# EAGLE library part XC3S500EPQ208 (library xilinx_spartan3_virtex4_and_5)
Xilinx FPGA
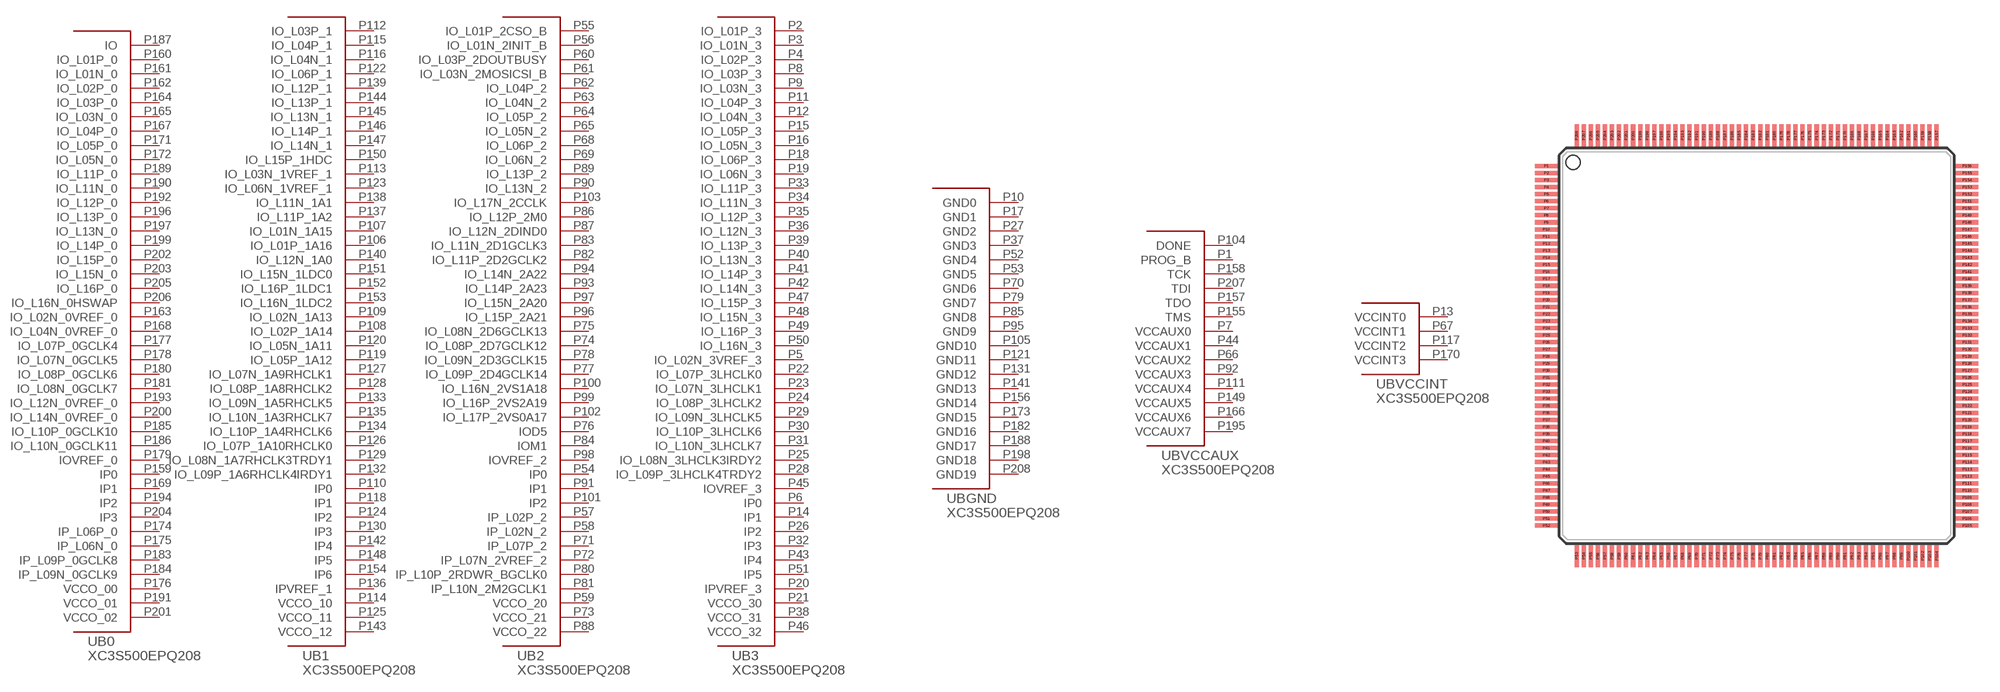
[diagram p51: symbol with the pads of PQ208; footprint PQ208]

Designator prefix U; gates B0=XC3S500EPQ208_0 B1=XC3S500EPQ208_1 B2=XC3S500EPQ208_2 B3=XC3S500EPQ208_3 BGND=XC3S500EPQ208_GND BVCCAUX=XC3S500EPQ208_VCCAUX BVCCINT=XC3S500EPQ208_VCCINT

## XC3S500EPQ208  [PQ208]
P1  BVCCAUX:PROG_B
P2  B3:IO_L01P_3
P3  B3:IO_L01N_3
P4  B3:IO_L02P_3
P5  B3:IO_L02N_3VREF_3
P6  B3:IP0
P7  BVCCAUX:VCCAUX0  pas
P8  B3:IO_L03P_3
P9  B3:IO_L03N_3
P10  BGND:GND0  pas
P11  B3:IO_L04P_3
P12  B3:IO_L04N_3
P13  BVCCINT:VCCINT0  pas
P14  B3:IP1
P15  B3:IO_L05P_3
P16  B3:IO_L05N_3
P17  BGND:GND1  pas
P18  B3:IO_L06P_3
P19  B3:IO_L06N_3
P20  B3:IPVREF_3
P21  B3:VCCO_30  pas
P22  B3:IO_L07P_3LHCLK0
P23  B3:IO_L07N_3LHCLK1
P24  B3:IO_L08P_3LHCLK2
P25  B3:IO_L08N_3LHCLK3IRDY2
P26  B3:IP2
P27  BGND:GND2  pas
P28  B3:IO_L09P_3LHCLK4TRDY2
P29  B3:IO_L09N_3LHCLK5
P30  B3:IO_L10P_3LHCLK6
P31  B3:IO_L10N_3LHCLK7
P32  B3:IP3
P33  B3:IO_L11P_3
P34  B3:IO_L11N_3
P35  B3:IO_L12P_3
P36  B3:IO_L12N_3
P37  BGND:GND3  pas
P38  B3:VCCO_31  pas
P39  B3:IO_L13P_3
P40  B3:IO_L13N_3
P41  B3:IO_L14P_3
P42  B3:IO_L14N_3
P43  B3:IP4
P44  BVCCAUX:VCCAUX1  pas
P45  B3:IOVREF_3
P46  B3:VCCO_32  pas
P47  B3:IO_L15P_3
P48  B3:IO_L15N_3
P49  B3:IO_L16P_3
P50  B3:IO_L16N_3
P51  B3:IP5
P52  BGND:GND4  pas
P53  BGND:GND5  pas
P54  B2:IP0
P55  B2:IO_L01P_2CSO_B
P56  B2:IO_L01N_2INIT_B
P57  B2:IP_L02P_2
P58  B2:IP_L02N_2
P59  B2:VCCO_20  pas
P60  B2:IO_L03P_2DOUTBUSY
P61  B2:IO_L03N_2MOSICSI_B
P62  B2:IO_L04P_2
P63  B2:IO_L04N_2
P64  B2:IO_L05P_2
P65  B2:IO_L05N_2
P66  BVCCAUX:VCCAUX2  pas
P67  BVCCINT:VCCINT1  pas
P68  B2:IO_L06P_2
P69  B2:IO_L06N_2
P70  BGND:GND6  pas
P71  B2:IP_L07P_2
P72  B2:IP_L07N_2VREF_2
P73  B2:VCCO_21  pas
P74  B2:IO_L08P_2D7GCLK12
P75  B2:IO_L08N_2D6GCLK13
P76  B2:IOD5
P77  B2:IO_L09P_2D4GCLK14
P78  B2:IO_L09N_2D3GCLK15
P79  BGND:GND7  pas
P80  B2:IP_L10P_2RDWR_BGCLK0
P81  B2:IP_L10N_2M2GCLK1
P82  B2:IO_L11P_2D2GCLK2
P83  B2:IO_L11N_2D1GCLK3
P84  B2:IOM1
P85  BGND:GND8  pas
P86  B2:IO_L12P_2M0
P87  B2:IO_L12N_2DIND0
P88  B2:VCCO_22  pas
P89  B2:IO_L13P_2
P90  B2:IO_L13N_2
P91  B2:IP1
P92  BVCCAUX:VCCAUX3  pas
P93  B2:IO_L14P_2A23
P94  B2:IO_L14N_2A22
P95  BGND:GND9  pas
P96  B2:IO_L15P_2A21
P97  B2:IO_L15N_2A20
P98  B2:IOVREF_2
P99  B2:IO_L16P_2VS2A19
P100  B2:IO_L16N_2VS1A18
P101  B2:IP2
P102  B2:IO_L17P_2VS0A17
P103  B2:IO_L17N_2CCLK
P104  BVCCAUX:DONE
P105  BGND:GND10  pas
P106  B1:IO_L01P_1A16
P107  B1:IO_L01N_1A15
P108  B1:IO_L02P_1A14
P109  B1:IO_L02N_1A13
P110  B1:IP0
P111  BVCCAUX:VCCAUX4  pas
P112  B1:IO_L03P_1
P113  B1:IO_L03N_1VREF_1
P114  B1:VCCO_10  pas
P115  B1:IO_L04P_1
P116  B1:IO_L04N_1
P117  BVCCINT:VCCINT2  pas
P118  B1:IP1
P119  B1:IO_L05P_1A12
P120  B1:IO_L05N_1A11
P121  BGND:GND11  pas
P122  B1:IO_L06P_1
P123  B1:IO_L06N_1VREF_1
P124  B1:IP2
P125  B1:VCCO_11  pas
P126  B1:IO_L07P_1A10RHCLK0
P127  B1:IO_L07N_1A9RHCLK1
P128  B1:IO_L08P_1A8RHCLK2
P129  B1:IO_L08N_1A7RHCLK3TRDY1
P130  B1:IP3
P131  BGND:GND12  pas
P132  B1:IO_L09P_1A6RHCLK4IRDY1
P133  B1:IO_L09N_1A5RHCLK5
P134  B1:IO_L10P_1A4RHCLK6
P135  B1:IO_L10N_1A3RHCLK7
P136  B1:IPVREF_1
P137  B1:IO_L11P_1A2
P138  B1:IO_L11N_1A1
P139  B1:IO_L12P_1
P140  B1:IO_L12N_1A0
P141  BGND:GND13  pas
P142  B1:IP4
P143  B1:VCCO_12  pas
P144  B1:IO_L13P_1
P145  B1:IO_L13N_1
P146  B1:IO_L14P_1
P147  B1:IO_L14N_1
P148  B1:IP5
P149  BVCCAUX:VCCAUX5  pas
P150  B1:IO_L15P_1HDC
P151  B1:IO_L15N_1LDC0
P152  B1:IO_L16P_1LDC1
P153  B1:IO_L16N_1LDC2
P154  B1:IP6
P155  BVCCAUX:TMS
P156  BGND:GND14  pas
P157  BVCCAUX:TDO
P158  BVCCAUX:TCK
P159  B0:IP0
P160  B0:IO_L01P_0
P161  B0:IO_L01N_0
P162  B0:IO_L02P_0
P163  B0:IO_L02N_0VREF_0
P164  B0:IO_L03P_0
P165  B0:IO_L03N_0
P166  BVCCAUX:VCCAUX6  pas
P167  B0:IO_L04P_0
P168  B0:IO_L04N_0VREF_0
P169  B0:IP1
P170  BVCCINT:VCCINT3  pas
P171  B0:IO_L05P_0
P172  B0:IO_L05N_0
P173  BGND:GND15  pas
P174  B0:IP_L06P_0
P175  B0:IP_L06N_0
P176  B0:VCCO_00  pas
P177  B0:IO_L07P_0GCLK4
P178  B0:IO_L07N_0GCLK5
P179  B0:IOVREF_0
P180  B0:IO_L08P_0GCLK6
P181  B0:IO_L08N_0GCLK7
P182  BGND:GND16  pas
P183  B0:IP_L09P_0GCLK8
P184  B0:IP_L09N_0GCLK9
P185  B0:IO_L10P_0GCLK10
P186  B0:IO_L10N_0GCLK11
P187  B0:IO
P188  BGND:GND17  pas
P189  B0:IO_L11P_0
P190  B0:IO_L11N_0
P191  B0:VCCO_01  pas
P192  B0:IO_L12P_0
P193  B0:IO_L12N_0VREF_0
P194  B0:IP2
P195  BVCCAUX:VCCAUX7  pas
P196  B0:IO_L13P_0
P197  B0:IO_L13N_0
P198  BGND:GND18  pas
P199  B0:IO_L14P_0
P200  B0:IO_L14N_0VREF_0
P201  B0:VCCO_02  pas
P202  B0:IO_L15P_0
P203  B0:IO_L15N_0
P204  B0:IP3
P205  B0:IO_L16P_0
P206  B0:IO_L16N_0HSWAP
P207  BVCCAUX:TDI
P208  BGND:GND19  pas

## Footprint PQ208 (pad centres in mm)
smd 1.6 x 0.3: P1 -14.9,12.75; P2 -14.9,12.25; P3 -14.9,11.75; P4 -14.9,11.25; P5 -14.9,10.75; P6 -14.9,10.25; P7 -14.9,9.75; P8 -14.9,9.25; P9 -14.9,8.75; P10 -14.9,8.25; P11 -14.9,7.75; P12 -14.9,7.25; P13 -14.9,6.75; P14 -14.9,6.25; P15 -14.9,5.75; P16 -14.9,5.25; P17 -14.9,4.75; P18 -14.9,4.25; P19 -14.9,3.75; P20 -14.9,3.25; P21 -14.9,2.75; P22 -14.9,2.25; P23 -14.9,1.75; P24 -14.9,1.25; P25 -14.9,0.75; P26 -14.9,0.25; P27 -14.9,-0.25; P28 -14.9,-0.75; P29 -14.9,-1.25; P30 -14.9,-1.75; P31 -14.9,-2.25; P32 -14.9,-2.75; P33 -14.9,-3.25; P34 -14.9,-3.75; P35 -14.9,-4.25; P36 -14.9,-4.75; P37 -14.9,-5.25; P38 -14.9,-5.75; P39 -14.9,-6.25; P40 -14.9,-6.75; P41 -14.9,-7.25; P42 -14.9,-7.75; P43 -14.9,-8.25; P44 -14.9,-8.75; P45 -14.9,-9.25; P46 -14.9,-9.75; P47 -14.9,-10.25; P48 -14.9,-10.75; P49 -14.9,-11.25; P50 -14.9,-11.75; P51 -14.9,-12.25; P52 -14.9,-12.75; P105 14.9,-12.75; P106 14.9,-12.25; P107 14.9,-11.75; P108 14.9,-11.25; P109 14.9,-10.75; P110 14.9,-10.25; P111 14.9,-9.75; P112 14.9,-9.25; P113 14.9,-8.75; P114 14.9,-8.25; P115 14.9,-7.75; P116 14.9,-7.25; P117 14.9,-6.75; P118 14.9,-6.25; P119 14.9,-5.75; P120 14.9,-5.25; P121 14.9,-4.75; P122 14.9,-4.25; P123 14.9,-3.75; P124 14.9,-3.25; P125 14.9,-2.75; P126 14.9,-2.25; P127 14.9,-1.75; P128 14.9,-1.25; P129 14.9,-0.75; P130 14.9,-0.25; P131 14.9,0.25; P132 14.9,0.75; P133 14.9,1.25; P134 14.9,1.75; P135 14.9,2.25; P136 14.9,2.75; P137 14.9,3.25; P138 14.9,3.75; P139 14.9,4.25; P140 14.9,4.75; P141 14.9,5.25; P142 14.9,5.75; P143 14.9,6.25; P144 14.9,6.75; P145 14.9,7.25; P146 14.9,7.75; P147 14.9,8.25; P148 14.9,8.75; P149 14.9,9.25; P150 14.9,9.75; P151 14.9,10.25; P152 14.9,10.75; P153 14.9,11.25; P154 14.9,11.75; P155 14.9,12.25; P156 14.9,12.75
smd 0.3 x 1.6: P53 -12.75,-14.9; P54 -12.25,-14.9; P55 -11.75,-14.9; P56 -11.25,-14.9; P57 -10.75,-14.9; P58 -10.25,-14.9; P59 -9.75,-14.9; P60 -9.25,-14.9; P61 -8.75,-14.9; P62 -8.25,-14.9; P63 -7.75,-14.9; P64 -7.25,-14.9; P65 -6.75,-14.9; P66 -6.25,-14.9; P67 -5.75,-14.9; P68 -5.25,-14.9; P69 -4.75,-14.9; P70 -4.25,-14.9; P71 -3.75,-14.9; P72 -3.25,-14.9; P73 -2.75,-14.9; P74 -2.25,-14.9; P75 -1.75,-14.9; P76 -1.25,-14.9; P77 -0.75,-14.9; P78 -0.25,-14.9; P79 0.25,-14.9; P80 0.75,-14.9; P81 1.25,-14.9; P82 1.75,-14.9; P83 2.25,-14.9; P84 2.75,-14.9; P85 3.25,-14.9; P86 3.75,-14.9; P87 4.25,-14.9; P88 4.75,-14.9; P89 5.25,-14.9; P90 5.75,-14.9; P91 6.25,-14.9; P92 6.75,-14.9; P93 7.25,-14.9; P94 7.75,-14.9; P95 8.25,-14.9; P96 8.75,-14.9; P97 9.25,-14.9; P98 9.75,-14.9; P99 10.25,-14.9; P100 10.75,-14.9; P101 11.25,-14.9; P102 11.75,-14.9; P103 12.25,-14.9; P104 12.75,-14.9; P157 12.75,14.9; P158 12.25,14.9; P159 11.75,14.9; P160 11.25,14.9; P161 10.75,14.9; P162 10.25,14.9; P163 9.75,14.9; P164 9.25,14.9; P165 8.75,14.9; P166 8.25,14.9; P167 7.75,14.9; P168 7.25,14.9; P169 6.75,14.9; P170 6.25,14.9; P171 5.75,14.9; P172 5.25,14.9; P173 4.75,14.9; P174 4.25,14.9; P175 3.75,14.9; P176 3.25,14.9; P177 2.75,14.9; P178 2.25,14.9; P179 1.75,14.9; P180 1.25,14.9; P181 0.75,14.9; P182 0.25,14.9; P183 -0.25,14.9; P184 -0.75,14.9; P185 -1.25,14.9; P186 -1.75,14.9; P187 -2.25,14.9; P188 -2.75,14.9; P189 -3.25,14.9; P190 -3.75,14.9; P191 -4.25,14.9; P192 -4.75,14.9; P193 -5.25,14.9; P194 -5.75,14.9; P195 -6.25,14.9; P196 -6.75,14.9; P197 -7.25,14.9; P198 -7.75,14.9; P199 -8.25,14.9; P200 -8.75,14.9; P201 -9.25,14.9; P202 -9.75,14.9; P203 -10.25,14.9; P204 -10.75,14.9; P205 -11.25,14.9; P206 -11.75,14.9; P207 -12.25,14.9; P208 -12.75,14.9